# EAGLE library part AD9833* (library 0-ADI-variety)
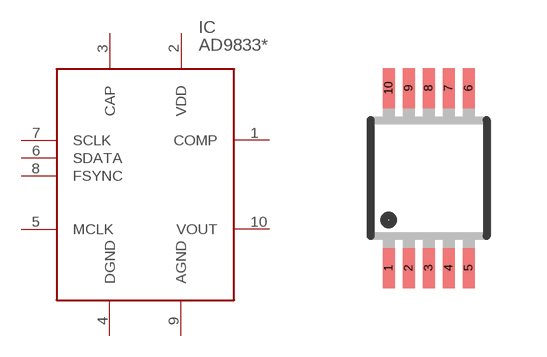
[diagram p5: symbol with the pads of MICROSOIC10; footprint MICROSOIC10]

Designator prefix IC

## AD9833BRM  [MICROSOIC10]
1  COMP
2  VDD
3  CAP
4  DGND
5  MCLK
6  SDATA
7  SCLK
8  FSYNC
9  AGND
10  VOUT

## Footprint MICROSOIC10 (pad centres in mm)
10-Lead microSOIC (RM-10) 10-µSOIC
smd 0.3 x 1: 1 -1,-2.25; 2 -0.5,-2.25; 3 0,-2.25; 4 0.5,-2.25; 5 1,-2.25; 6 1,2.25; 7 0.5,2.25; 8 0,2.25; 9 -0.5,2.25; 10 -1,2.25